# EAGLE library part LTC3776 (library PowerProducts)
Dual 2-Phase, No RSENSE Synchronous Controller for DDR/QDR Memory Termination
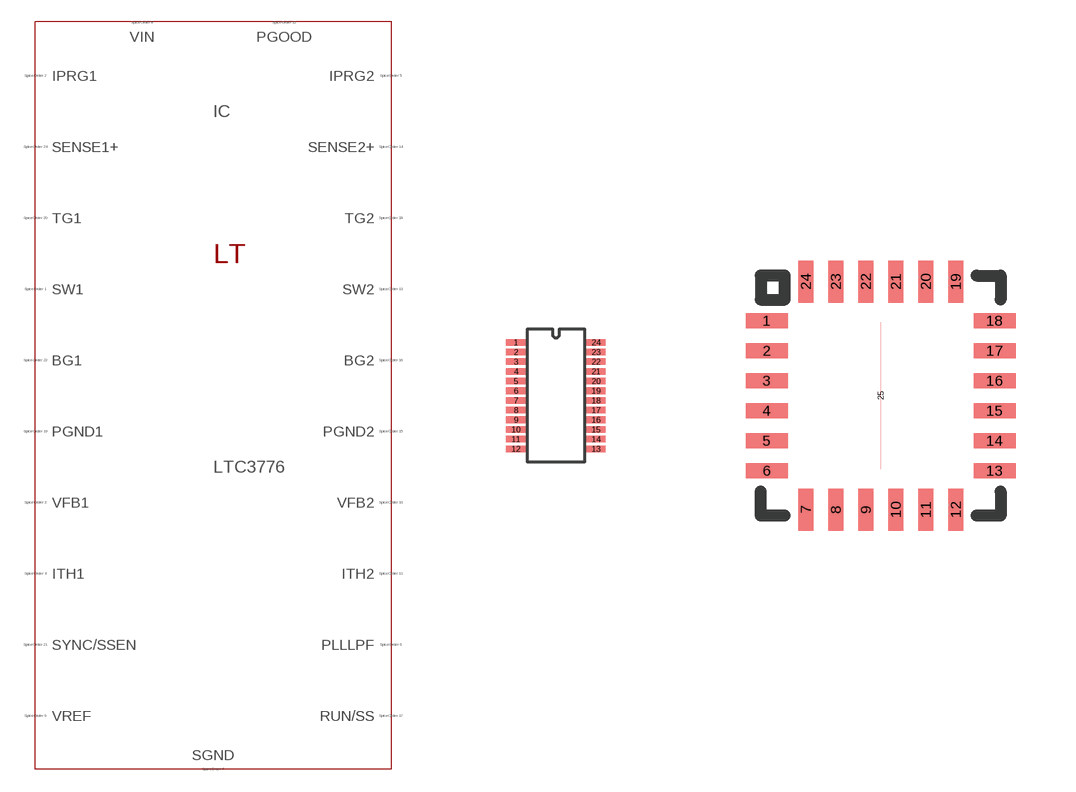
[diagram p322: symbol with the pads of SSOP24(GN); footprints SSOP24(GN), QFN24(UF)]

Designator prefix IC

## LTC3776 (SPICEMODEL: LTC3776.sub; SPICEPREFIX: X; VALUE2: LTC3776)  [SSOP24(GN)]
1  SW1  pas
2  IPRG1  pas
3  VFB1  pas
4  ITH1  pas
5  IPRG2  pas
6  PLLLPF  pas
7  SGND  pas
8  VIN  pas
9  VREF  pas
10  VFB2  pas
11  ITH2  pas
12  PGOOD  pas
13  SW2  pas
14  SENSE2+  pas
15  PGND2  pas
16  BG2  pas
17  RUN/SS  pas
18  TG2  pas
19  PGND2  pas
20  TG1  pas
21  SYNC/SSEN  pas
22  BG1  pas
23  PGND1  pas
24  SENSE1+  pas

## LTC3776UF (SPICEMODEL: LTC3776.sub; SPICEPREFIX: X; VALUE2: LTC3776)  [QFN24(UF)]
1  ITH1  pas
2  IPRG2  pas
3  PLLLPF  pas
4  SGND  pas
5  VIN  pas
6  VREF  pas
7  VFB2  pas
8  ITH2  pas
9  PGOOD  pas
10  SW2  pas
11  SENSE2+  pas
12  PGND2  pas
13  BG2  pas
14  RUN/SS  pas
15  TG2  pas
16  PGND2  pas
17  TG1  pas
18  SYNC/SSEN  pas
19  BG1  pas
20  PGND1  pas
21  SENSE1+  pas
22  SW1  pas
23  IPRG1  pas
24  VFB1  pas
25  PGND1  pas

## Footprint SSOP24(GN) (pad centres in mm)
Package generated from: SSOP24(GN).asc (!PADS-POWERPCB-V5.0-BASIC! DESIGN DATABASE ASCII FILE 1.0) with :import-pads-powerpcb-v5.ulp Version 1.0.1 at 04.10.2012 14:11:39
smd 0.484 x 0.165: 1 -1.002,1.331; 2 -1.002,1.089; 3 -1.002,0.847; 4 -1.002,0.605; 5 -1.002,0.363; 6 -1.002,0.121; 7 -1.002,-0.121; 8 -1.002,-0.363; 9 -1.002,-0.605; 10 -1.002,-0.847; 11 -1.002,-1.089; 12 -1.002,-1.331; 13 1.002,-1.331; 14 1.002,-1.089; 15 1.002,-0.847; 16 1.002,-0.605; 17 1.002,-0.363; 18 1.002,-0.121; 19 1.002,0.121; 20 1.002,0.363; 21 1.002,0.605; 22 1.002,0.847; 23 1.002,1.089; 24 1.002,1.331

## Footprint QFN24(UF) (pad centres in mm)
Package generated from: QFN24(UF).asc (!PADS-POWERPCB-V5.0-BASIC! DESIGN DATABASE ASCII FILE 1.0) with :import-pads-powerpcb-v5.ulp Version 1.0.1 at 04.10.2012 14:11:24
smd 1.05 x 0.375: 1 -2.85,1.875; 2 -2.85,1.125; 3 -2.85,0.375; 4 -2.85,-0.375; 5 -2.85,-1.125; 6 -2.85,-1.875; 13 2.85,-1.875; 14 2.85,-1.125; 15 2.85,-0.375; 16 2.85,0.375; 17 2.85,1.125; 18 2.85,1.875
smd 0.375 x 1.05: 7 -1.875,-2.85; 8 -1.125,-2.85; 9 -0.375,-2.85; 10 0.375,-2.85; 11 1.125,-2.85; 12 1.875,-2.85; 19 1.875,2.85; 20 1.125,2.85; 21 0.375,2.85; 22 -0.375,2.85; 23 -1.125,2.85; 24 -1.875,2.85
smd 0 x 3.675: 25 0,0